# Altium schematic symbol library Zenite_Symbols.SchLib: 4 symbols
Pins are listed as number, name and electrical type; pins without a type are passive.

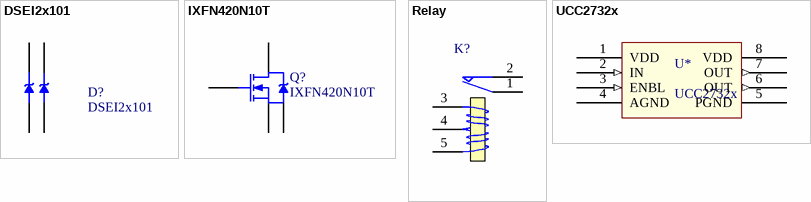
[diagram p0: symbols DSEI2x101 to UCC2732x]

## DSEI2x101
designator D?
footprint SOT-227B (SOT-227; 4 Screw Terminals, 2 Mounting Holes)
pins: 1 K1, 2 A1, 3 A2, 4 K2

## IXFN420N10T
designator Q?
footprint SOT-227B (SOT-227; 4 Screw Terminals, 2 Mounting Holes)
pins: 1 S, 2 G, 3 D, 4 S

## Relay
designator K?
SPDT Relay; Published: 8-Jun-2000; LatestRevisionDate: 17-Jul-2002; LatestRevisionNote: Re-released for DXP Platform.; PackageReference: MODULE5B; Publisher: Altium Limited
footprint DIP-P5/X1.65 (DIP; 5 Round Pins; Row Space 15.24 mm; Pitch 2.54 mm)
simulation model SPDTRELAY (Spice Subcircuit)
pins: 1 COM, 2 NC, 3 T1, 4 T2, 5 T3

## UCC2732x
designator U*
footprint SOIC08-Thermal (SOIC; 8 Leads; Row Spacing 3.81 mm; Pitch 1.27 mm; 3D Antonio Fagaldo)
pins: 1 VDD (power), 2 IN (in), 3 ENBL (in), 4 AGND (power), 5 PGND (power), 6 OUT (out), 7 OUT (out), 8 VDD (power)